# Altium footprint library PCB-Design-of-the-8051.PcbLib: 1 footprints
Each footprint in its own frame and in the unit in brackets; x right, y up, seen from the top. Pads: shape width x height; smd on the part's side, far side on the other; paste and mask are expansions set on the pad; w line width, h text height; cw(c..) or ccw(c..) is an arc to the next point about the centre after c.
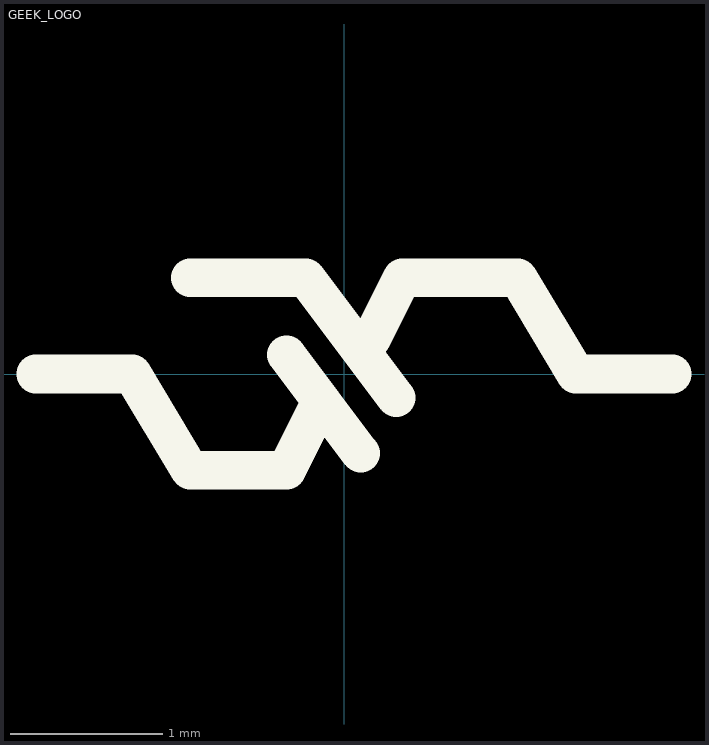
[diagram p0: the footprint, top view; thin cyan lines are the x and y axes]

## GEEK_LOGO [mm] "极客科技社logo"
Top Overlay:
  lines w0.254: -2.032,0 -1.397,0 -1.016,-0.635 -0.381,-0.635 -0.178,-0.229 ; -1.016,0.635 -0.254,0.635 0.34,-0.157 ; -0.381,0.127 0.107,-0.523 ; 0.178,0.229 0.381,0.635 1.143,0.635 1.524,0 2.159,0